# EAGLE library part USBN960* (library national-semiconductor)
USBN9603/USBN9604 Universal Serial Bus Full Speed Node Controller with Enhanced DMA Support Source: http://www.national.com .. USBN9603.pdf
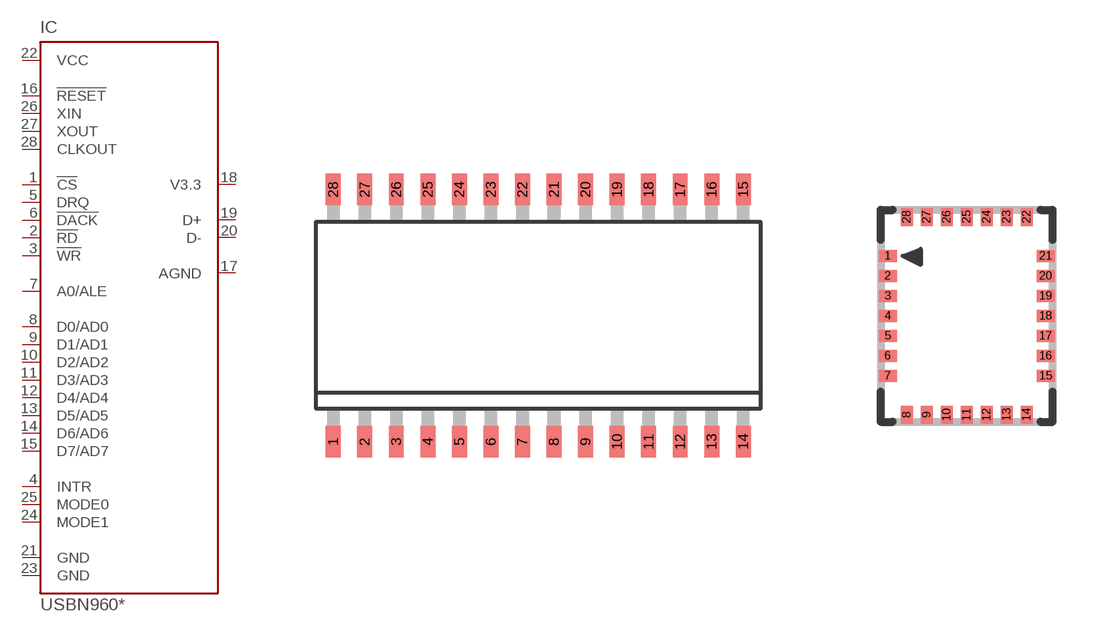
[diagram p10: symbol with the pads of MSO28W; footprints MSO28W, LSB28]

Designator prefix IC

## USBN9603-28M (MF: NATIONAL SEMICONDUCTOR; MPN: USBN9603-28M/NOPB; OC_FARNELL: 1214542; OC_NEWARK: 41K8479), USBN9604-28M (MF: NATIONAL SEMICONDUCTOR; MPN: USBN9604-28M; OC_FARNELL: 1214543; OC_NEWARK: 34C6795)  [MSO28W]
1  !CS  in
2  !RD  in
3  !WR  in
4  INTR  in
5  DRQ  in
6  !DACK  in
7  A0/ALE  in
8  D0/AD0  in
9  D1/AD1  in
10  D2/AD2  in
11  D3/AD3  in
12  D4/AD4  in
13  D5/AD5  in
14  D6/AD6  in
15  D7/AD7  in
16  !RESET  in
17  AGND  pwr
18  V3.3  out
19  D+
20  D-
21  GND  pwr
22  VCC  pwr
23  GND  pwr
24  MODE1  in
25  MODE0  in
26  XIN  in
27  XOUT  out
28  CLKOUT  out

## USBN9603SLB (MPN: USBN9603SLB; OC_FARNELL: unknown; OC_NEWARK: 22M2133), USBN9604SLB (MF: NATIONAL SEMICONDUCTOR; MPN: USBN9604SLB; OC_FARNELL: unknown; OC_NEWARK: 41J8499)  [LSB28]
1  D3/AD3  in
2  D4/AD4  in
3  D5/AD5  in
4  D6/AD6  in
5  D7/AD7  in
6  !RESET  in
7  AGND  pwr
8  V3.3  out
9  D+
10  D-
11  GND  pwr
12  VCC  pwr
13  GND  pwr
14  MODE1  in
15  MODE0  in
16  XIN  in
17  XOUT  out
18  CLKOUT  out
19  !CS  in
20  !RD  in
21  !WR  in
22  INTR  in
23  DRQ  in
24  !DACK  in
25  A0/ALE  in
26  D0/AD0  in
27  D1/AD1  in
28  D2/AD2  in

## Footprint MSO28W (pad centres in mm)
Molded SO Wide Body Package (WM) See NS Package Number M28B Source: http://www.national.com .. USBN9603.pdf
smd 0.6 x 1.27: 1 -8.255,-5.08; 2 -6.985,-5.08; 3 -5.715,-5.08; 4 -4.445,-5.08; 5 -3.175,-5.08; 6 -1.905,-5.08; 7 -0.635,-5.08; 8 0.635,-5.08; 9 1.905,-5.08; 10 3.175,-5.08; 11 4.445,-5.08; 12 5.715,-5.08; 13 6.985,-5.08; 14 8.255,-5.08; 15 8.255,5.08; 16 6.985,5.08; 17 5.715,5.08; 18 4.445,5.08; 19 3.175,5.08; 20 1.905,5.08; 21 0.635,5.08; 22 -0.635,5.08; 23 -1.905,5.08; 24 -3.175,5.08; 25 -4.445,5.08; 26 -5.715,5.08; 27 -6.985,5.08; 28 -8.255,5.08

## Footprint LSB28 (pad centres in mm)
Laminate Substrate Based Package See NS Package Number SLB28AA Source: http://www.national.com .. USBN9603.pdf
smd 0.45 x 0.3: 1 -1.975,1.5; 2 -1.975,1; 3 -1.975,0.5; 4 -1.975,0; 5 -1.975,-0.5; 6 -1.975,-1; 7 -1.975,-1.5; 15 1.975,-1.5; 16 1.975,-1; 17 1.975,-0.5; 18 1.975,0; 19 1.975,0.5; 20 1.975,1; 21 1.975,1.5
smd 0.3 x 0.45: 8 -1.5,-2.475; 9 -1,-2.475; 10 -0.5,-2.475; 11 0,-2.475; 12 0.5,-2.475; 13 1,-2.475; 14 1.5,-2.475; 22 1.5,2.475; 23 1,2.475; 24 0.5,2.475; 25 0,2.475; 26 -0.5,2.475; 27 -1,2.475; 28 -1.5,2.475